# EAGLE library part TI-DCDC-8THBRICK (library 0HuskyRobotics17-18)
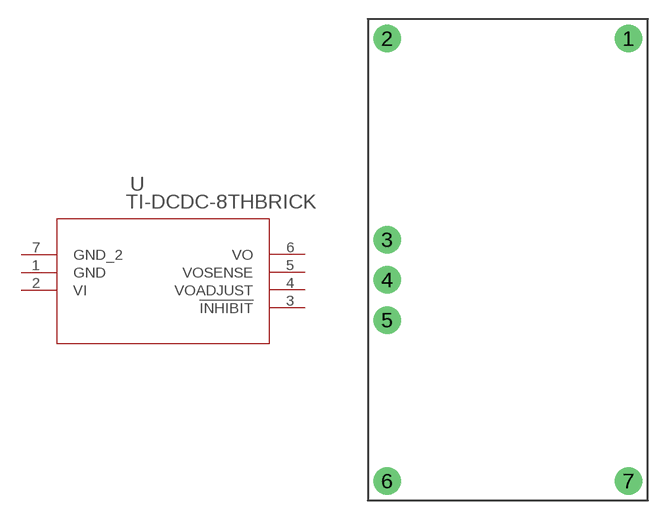
[diagram p4: symbol with the pads of TIBRICK; footprint TIBRICK]

Designator prefix U

## TI-DCDC-8THBRICK (MANUFACTURER_PART_NUMBER: PTN78020WAH; VENDOR: Texas Instruments)  [TIBRICK]
1  GND  pwr
2  VI  in
3  !INHIBIT  in
4  VOADJUST  in
5  VOSENSE  in
6  VO  in
7  GND_2  pwr

## Footprint TIBRICK (pad centres in mm)
drill 1.397 pad 2.184: 1 9.525,17.462; 2 -9.525,17.462; 3 -9.525,1.587; 4 -9.525,-1.587; 5 -9.525,-4.763; 6 -9.525,-17.462; 7 9.525,-17.462